# Altium footprint library DataAcquisitonBoard.PcbLib: 21 footprints (part 2 of 2)
Each footprint in its own frame and in the unit in brackets; x right, y up, seen from the top. Pads: shape width x height; smd on the part's side, far side on the other; paste and mask are expansions set on the pad; w line width, h text height; cw(c..) or ccw(c..) is an arc to the next point about the centre after c.
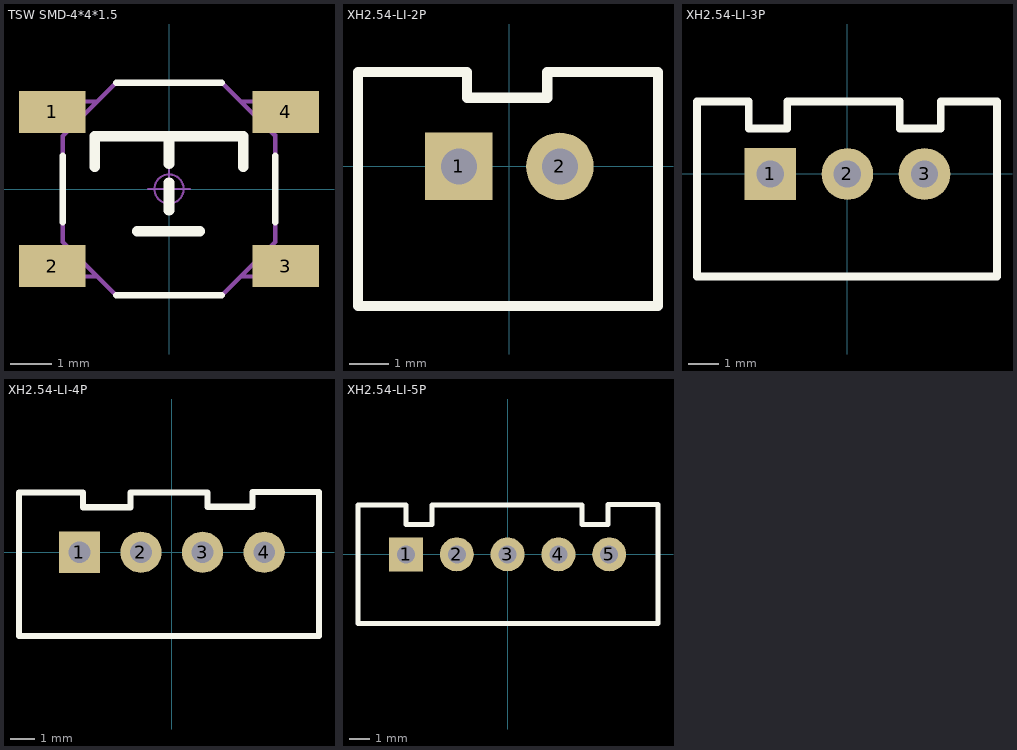
[diagram p1: the footprints below, top view; thin cyan lines are the x and y axes]

## TSW SMD-4*4*1.5 [mm] "轻触开关，长宽高：4*4*1.5mm"
height 1.5
pads (4):
  rect 1.6x1 smd: 1(-2.8,1.85) 2(-2.8,-1.85) 3(2.8,-1.85) 4(2.8,1.85)
Top Overlay:
  lines w0.152: -2.55,-0.8 -2.55,0.8 ; -1.27,-2.55 1.27,-2.55 ; -1.27,2.55 1.27,2.55 ; 2.55,-0.8 2.55,0.8
  lines w0.254: -1.778,0.533 -1.778,1.27 1.778,1.27 1.778,0.533 ; -0.762,-1.016 0.737,-1.016 ; 0,-0.508 0,0.152 ; 0,0.61 0,1.27
Mechanical 15:
  circle w0.05: c0,0 r0.35
  lines w0.05: -0.5,0 0.5,0 ; 0,-0.5 0,0.5
  lines w0.1: -2.221,-1.6 -3.2,-1.6 -3.2,-2.1 -1.719,-2.1 ; -2.221,1.6 -3.2,1.6 -3.2,2.1 -1.719,2.1 ; 1.719,-2.1 3.2,-2.1 3.2,-1.6 2.221,-1.6 ; 1.719,2.1 3.2,2.1 3.2,1.6 2.221,1.6 ; 2.55,1.27 1.27,2.55 -1.27,2.55 -2.55,1.27 -2.55,-1.27 -1.27,-2.55 1.27,-2.55 2.55,-1.27 2.55,1.295
3D body "ts44h.stp": height 1.5, standoff 0, extent -3.204,-2.6 3.196,2.6

## XH2.54-LI-2P [mm] "接插件，2P"
pads (2):
  rect 1.7x1.7 hole 0.9: 1(-1.27,0)
  round 1.7 hole 0.9: 2(1.27,0)
Top Overlay:
  lines w0.254: -3.807,-3.505 -3.807,2.37 -1.067,2.37 -1.067,1.727 0.953,1.727 0.953,2.37 2.954,2.37 3.736,2.37 3.736,-3.505 -3.807,-3.505
3D body "XH2.54-2P.STEP": height 7.05, standoff -2.45, extent -3.77,-3.3 3.77,2.4

## XH2.54-LI-3P [mm] "接插件，3P"
pads (3):
  rect 1.7x1.7 hole 0.9: 1(-2.54,0)
  round 1.7 hole 0.9: 2(0,0) 3(2.54,0)
Top Overlay:
  lines w0.254: -4.953,-3.378 -4.953,2.388 -3.251,2.388 -3.251,1.5 -1.981,1.5 -1.981,2.388 1.727,2.388 1.727,1.5 3.073,1.5 3.073,2.388 4.928,2.388 4.928,-3.378 -4.953,-3.378
3D body "XH2.54-3P.STEP": height 7.03, standoff -2.47, extent -5.04,-3.3 5.04,2.4

## XH2.54-LI-4P [mm] "接插件，4P"
pads (4):
  rect 1.7x1.7 hole 0.9: 1(-3.81,0)
  round 1.7 hole 0.9: 2(-1.27,0) 3(1.27,0) 4(3.81,0)
Top Overlay:
  lines w0.254: -6.299,-3.454 6.071,-3.454 6.071,2.489 3.327,2.489 3.327,1.88 1.473,1.88 1.473,2.464 -1.702,2.464 -1.702,1.854 -3.658,1.854 -3.658,2.464 -6.299,2.464 -6.299,-3.454
3D body "XH2.54-4P.STEP": height 7.03, standoff -2.47, extent -6.31,-3.3 6.31,2.4

## XH2.54-LI-5P [mm] "接插件，5P"
pads (5):
  rect 1.7x1.7 hole 0.9: 1(-5.08,0)
  round 1.7 hole 0.9: 2(-2.54,0) 3(0,0) 4(2.54,0) 5(5.08,0)
Top Overlay:
  lines w0.254: -3.78,2.438 -3.78,1.5 -5.08,1.5 -5.08,2.464 -7.48,2.464 -7.48,-3.454 7.52,-3.454 7.52,2.489 5.02,2.489 5.02,1.5 3.72,1.5 3.72,2.464 -3.78,2.464
3D body "XH2.54-5P.STEP": height 7.03, standoff -2.47, extent -7.58,-3.3 7.58,2.4